# EAGLE library part 39COLUMN (library Terminals)
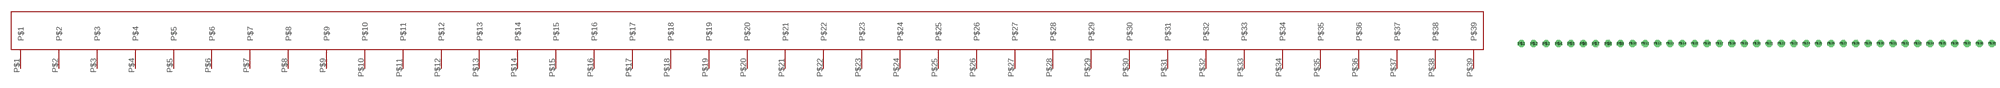
[diagram p0: symbol with the pads of COLUMNS; footprint COLUMNS]

Designator prefix -

## 39COLUMN  [COLUMNS]
P$1  P$1
P$2  P$2
P$3  P$3
P$4  P$4
P$5  P$5
P$6  P$6
P$7  P$7
P$8  P$8
P$9  P$9
P$10  P$10
P$11  P$11
P$12  P$12
P$13  P$13
P$14  P$14
P$15  P$15
P$16  P$16
P$17  P$17
P$18  P$18
P$19  P$19
P$20  P$20
P$21  P$21
P$22  P$22
P$23  P$23
P$24  P$24
P$25  P$25
P$26  P$26
P$27  P$27
P$28  P$28
P$29  P$29
P$30  P$30
P$31  P$31
P$32  P$32
P$33  P$33
P$34  P$34
P$35  P$35
P$36  P$36
P$37  P$37
P$38  P$38
P$39  P$39

## Footprint COLUMNS (pad centres in mm)
drill 1.25 pad 2.5 octagon: P$1 0,0; P$2 4.5,0; P$3 9,0; P$4 13.5,0; P$5 18,0; P$6 22.5,0; P$7 27,0; P$8 31.5,0; P$9 36,0; P$10 40.5,0; P$11 45,0; P$12 49.5,0; P$13 54,0; P$14 58.5,0; P$15 63,0; P$16 67.5,0; P$17 72,0; P$18 76.5,0; P$19 81,0; P$20 85.5,0; P$21 90,0; P$22 94.5,0; P$23 99,0; P$24 103.5,0; P$25 108,0; P$26 112.5,0; P$27 117,0; P$28 121.5,0; P$29 126,0; P$30 130.5,0; P$31 135,0; P$32 139.5,0; P$33 144,0; P$34 148.5,0; P$35 153,0; P$36 157.5,0; P$37 162,0; P$38 166.5,0; P$39 171,0